# Altium footprint library JWpulsegen-V3.PcbLib: 13 footprints
Each footprint in its own frame and in the unit in brackets; x right, y up, seen from the top. Pads: shape width x height; smd on the part's side, far side on the other; paste and mask are expansions set on the pad; w line width, h text height; cw(c..) or ccw(c..) is an arc to the next point about the centre after c.
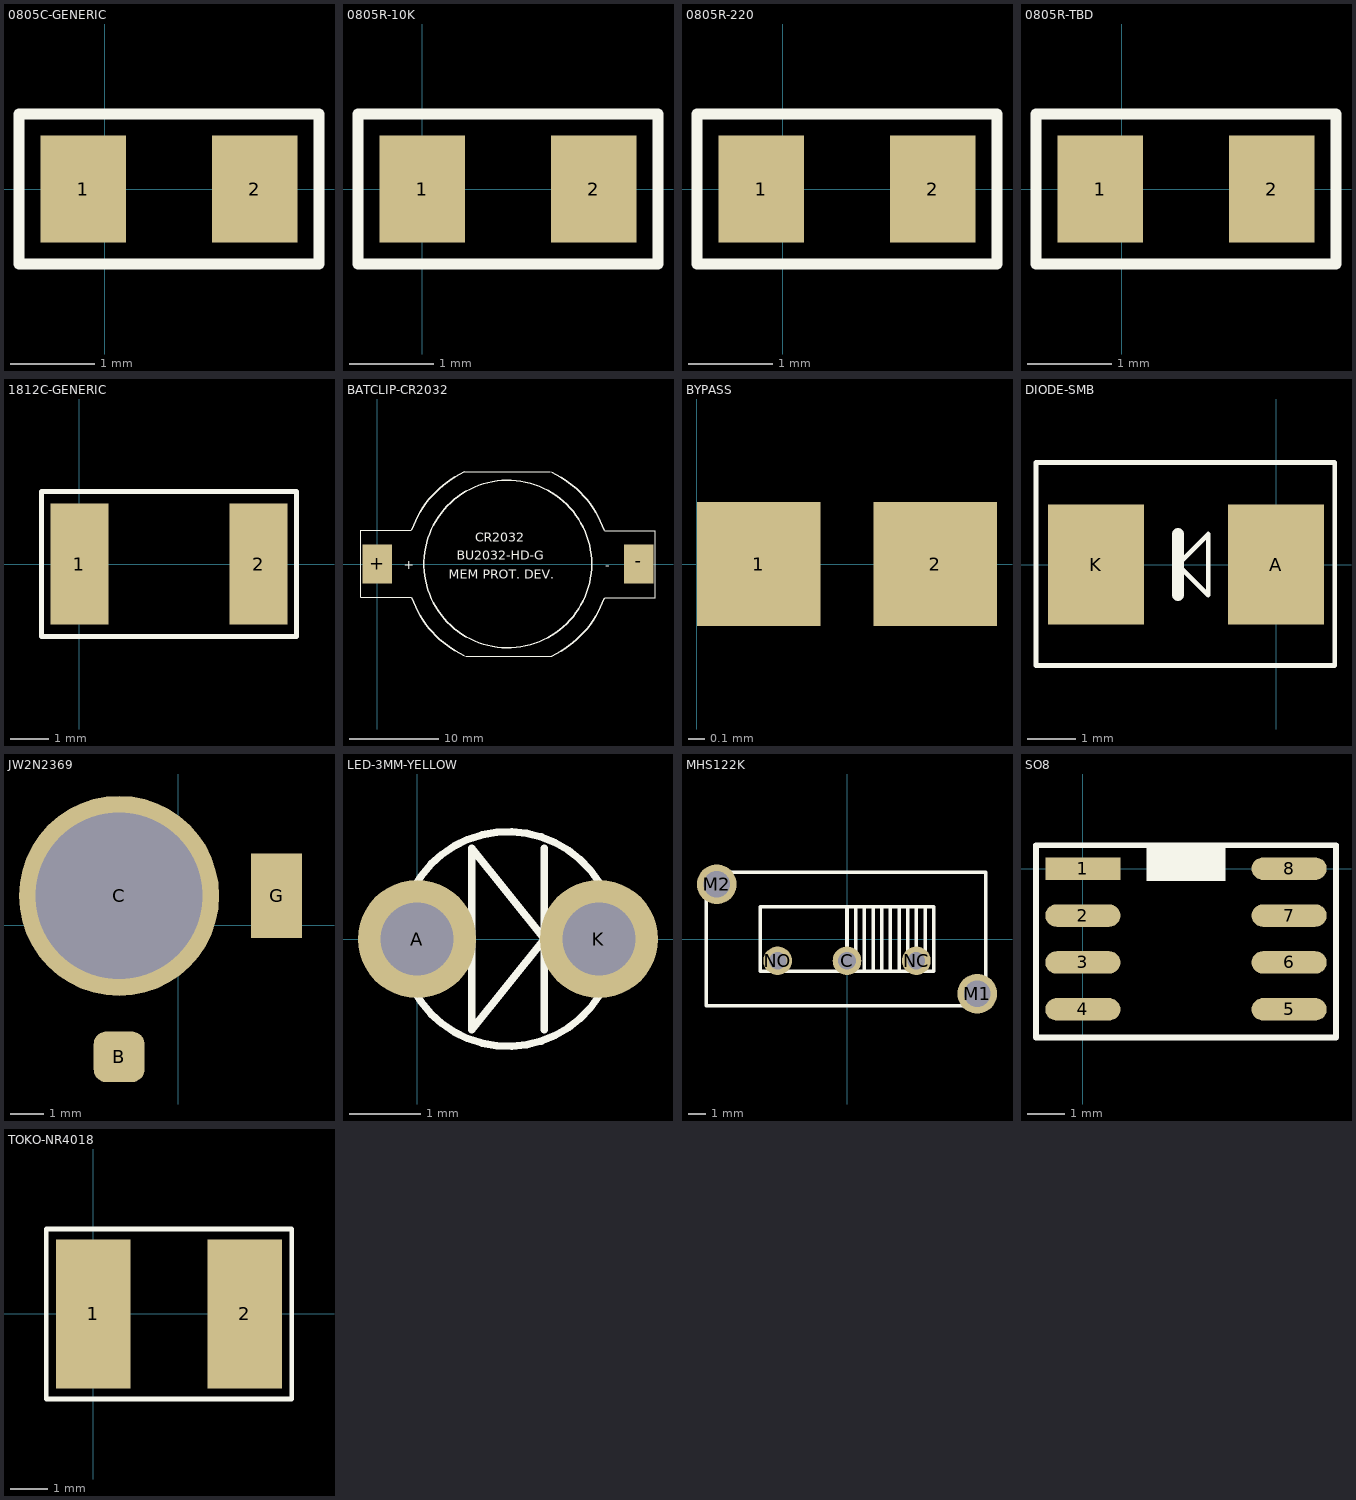
[diagram p0: the footprints below, top view; thin cyan lines are the x and y axes]

## 0805C-GENERIC [mil] "CAPACITOR 0805"
height 47.24
pads (2):
  rect 40x50 smd: 1(-10,0) 2(70,0)
Top Overlay:
  lines w5: -40,-35 100,-35 100,35 -40,35 -40,-35
3D body: height 23, standoff 22, extent 45,2.5 52.5,17.5
3D body: height 23, standoff 22, extent 35,2.5 42.5,17.5
3D body: height 23, standoff 22, extent 10.5,-15 18,0
3D body: height 23, standoff 22, extent -5,2.5 2.5,17.5
3D body: height 23, standoff 22, extent 5,2.5 12.5,17.5
3D body: height 23, standoff 22, extent 15,2.5 22.5,17.5
3D body: height 23, standoff 22, extent 25,2.5 32.5,17.5
3D body: height 23, standoff 22, extent 20.5,-15 28,0
3D body: height 23, standoff 22, extent 0.5,-15 8,0
3D body: height 23, standoff 22, extent 30.5,-15 38,0
3D body: height 23, standoff 22, extent 40.5,-15 48,0
3D body: height 25, standoff 0, extent -10,-24 69,24
3D body: height 26, standoff 0, extent -11,-25 5,25
3D body: height 26, standoff 0, extent 54,-25 70,25

## 0805R-10K [mil] "RESISTOR 0805"
height 47.24
pads (2):
  rect 40x50 smd: 1(0,0) 2(80,0)
Top Overlay:
  lines w5: -30,-35 110,-35 110,35 -30,35 -30,-35
3D body: height 27, standoff 26, extent 45.5,-7.5 53,7.5
3D body: height 27, standoff 26, extent 25.5,-7.5 33,7.5
3D body: height 27, standoff 26, extent 35.5,-7.5 43,7.5
3D body: height 26, standoff 0, extent 64,-25 80,25
3D body: height 26, standoff 25, extent 15,-22 64,22
3D body: height 26, standoff 0, extent -1,-25 15,25
3D body: height 25, standoff 0, extent 0,-24 79,24

## 0805R-220 [mil] "RESISTOR 0805"
height 47.24
pads (2):
  rect 40x50 smd: 1(-10,0) 2(70,0)
Top Overlay:
  lines w5: -40,-35 100,-35 100,35 -40,35 -40,-35
3D body: height 27, standoff 26, extent 35.5,-7.5 43,7.5
3D body: height 27, standoff 26, extent 25.5,-7.5 33,7.5
3D body: height 27, standoff 26, extent 15.5,-7.5 23,7.5
3D body: height 26, standoff 0, extent 54,-25 70,25
3D body: height 26, standoff 25, extent 5,-22 54,22
3D body: height 26, standoff 0, extent -11,-25 5,25
3D body: height 25, standoff 0, extent -10,-24 69,24

## 0805R-TBD [mil] "RESISTOR 0805 VALUE TO BE DETERMINED"
height 47.24
pads (2):
  rect 40x50 smd: 1(-10,0) 2(70,0)
Top Overlay:
  lines w5: -40,-35 100,-35 100,35 -40,35 -40,-35
3D body: height 27, standoff 26, extent 13.5,-5 21,8.5
3D body: height 26, standoff 0, extent 54,-25 70,25
3D body: height 26, standoff 25, extent 5,-22 54,22
3D body: height 26, standoff 0, extent -11,-25 5,25
3D body: height 25, standoff 0, extent -10,-24 69,24
3D body: height 27, standoff 26, extent 16,-9 18,-7
3D body: height 27, standoff 26, extent 26,-9 28,-7
3D body: height 27, standoff 26, extent 23.5,-5 31,8.5
3D body: height 27, standoff 26, extent 36,-9 38,-7
3D body: height 27, standoff 26, extent 33.5,-5 41,8.5

## 1812C-GENERIC [mil]
pads (2):
  rect 60x125 smd: 1(0,0) 2(185,0)
Top Overlay:
  lines w5: 23.62,-74.8 161.42,-74.8 ; 23.62,74.8 165.35,74.8 ; 25,-74.8 -39.37,-74.8 -39.37,74.8 25,74.8 ; 160,-74.8 224.41,-74.8 224.41,74.8 160,74.8
3D body "User Library-1812 SMD Capacitor.step": height 63.07, standoff 0, extent 1.97,-62.99 179.13,62.99

## BATCLIP-CR2032 [mil] "BATTERY CLIP 2032 SMD BU2032SM-HD-G"
pads (2):
  rect 130x170 smd mask+2: +(0,0) -(1148,0)
Top Overlay:
  circle w6: c573,0 r368.49
  lines w5: 150,-146 -73,-146 -73,14 -73,148 150,148 ; 382,406 760,406 ; 388,-406 766,-406 ; 998,-148 1221,-148 1221,-14 1221,146 998,146
  lines w6: 151.39,-147.51 ccw(c573,1) 381.64,-402.97 ; 151.39,149.51 cw(c573,1) 381.64,404.97 ; 766.36,-404.97 ccw(c575,-1) 996.61,-149.51 ; 766.36,402.97 cw(c575,-1) 996.61,147.51
  text "MEM PROT. DEV." at 314,-64 h40
  text "BU2032-HD-G" at 349,19 h40
  text "CR2032" at 431,98 h40
  text "+" at 116,-23 h40
  text "-" at 1001,-25 h40
3D body "User Library-BU2032SM-HD-G(CR2032 Battery Holder).step": height 208.66, standoff 0, extent -56,-393 1203.84,394.4
3D body "CircuitWorks-BATT CR2032.step": height 180, standoff 54.02, extent 173.3,-390.7 960.7,396.7

## BYPASS [mil] "SOLDERDOT BYPASS"
height 619.68
pads (2):
  rect 30x30 smd paste-300: 1(15,0)
  rect 30x30 smd paste-30: 2(57.86,0)
Top Solder:
  circle w30: c34,0 r15

## DIODE-SMB [mm]
pads (2):
  rect 2x2.5 smd: A(0,0) K(-3.75,0)
Top Overlay:
  lines w0.102: -5,-2.1 -5,2.125 1.225,2.125 1.225,-2.1 -5,-2.1 ; -2.046,0 -1.411,0.635 -1.411,0 -1.411,-0.635 -2.046,0
  lines w0.25: -2.046,-0.635 -2.046,0 -2.046,0.635
3D body: height 0.3, standoff 0, extent -4.575,-1.125 -3.6,1.125
3D body: height 1.1, standoff 0.7, extent -4.575,-1.125 -4.15,1.125
3D body: height 1.1, standoff 0, extent -4.575,-1.125 -4.275,1.125
3D body: height 1.1, standoff 0, extent 0.5,-1.125 0.8,1.125
3D body: height 1.1, standoff 0.7, extent 0.375,-1.125 0.8,1.125
3D body: height 0.3, standoff 0, extent -0.175,-1.125 0.8,1.125
3D body: height 2.23, standoff 2.2, extent -3.512,-1.8 -3.05,1.825
3D body: height 2.2, standoff 0.5, extent -4.175,-1.95 0.4,2
3D body: height 0.5, standoff 0, extent -2.375,-1.95 -1.275,2
3D body: height 2, standoff 0.4, extent -4.175,-1.95 0.4,2

## JW2N2369 [mil]
height 47.24
pads (3):
  rrect50% 60x60 smd mask+2: B(-70,-155)
  round 236.22 hole 196.85 mask+2: C(-70,35)
  rect 60x100 smd mask+2: G(116,35)
3D body: height 140, standoff 120, extent -79.89,-164.96 -60,-145.04
3D body: height 140, standoff 120, extent -79.89,-23.91 -60,-4
3D body: height 140, standoff 120, extent -29.89,25.04 -10,44.96
3D body "to18.stp": height 131.5, standoff -92.91, extent -217.77,-112.77 104.35,209.34
3D body: height 139.98, standoff 120.02, extent 164.99,25.08 214.99,45
3D body: height 139.98, standoff 120.02, extent 129.99,25.08 179.99,45
3D body: height 139.98, standoff 120.02, extent -20.01,25.08 29.99,45
3D body: height 139.98, standoff 120.02, extent 5,25.08 55,45
3D body: height 139.98, standoff 120.02, extent 55,25.08 105,45
3D body: height 139.98, standoff 120.02, extent 104.99,25.08 154.99,45
3D body: height 139.98, standoff 120.02, extent -79.92,-65 -60,-15
3D body: height 139.98, standoff 120.02, extent -79.88,-105 -59.96,-55
3D body: height 139.98, standoff 120.02, extent -79.92,-155 -60,-105
3D body: height 130, standoff 0, extent -79.92,-164.98 -60,-145.01
3D body "User Library-1206 SMD Resistor.step": height 124.99, standoff -0.99, extent 96.55,3.5 136,66.5
3D body: height 140, standoff 120, extent -129.89,25.05 -109.99,44.97

## LED-3MM-YELLOW [mil]
height 47.24
pads (2):
  round 65 hole 40: A(0,0) K(100,0)
Top Overlay:
  circle w4: c50,0 r59.06
  lines w4: 70,-50 70,0 ; 70,50 70,0 ; 70,0 30,50 30,-50 70,0
3D body: height 50, standoff -120, extent 87,-12.5 112,12.5
3D body: height 90, standoff 50, extent -13,-13 30,12
3D body: height 90, standoff 50, extent 69,-12.5 112,12.5
3D body: height 100, standoff 90, extent 35,-33 90,33
3D body: height 60, standoff -120, extent -12.5,-13 12.5,12
3D body: height 100, standoff 90, extent 21,-7 30,7
3D body: height 110, standoff 100, extent 45,-5 55,5
3D body: height 190, standoff 70, extent -9,-59 110.53,60.76
3D body: height 250, standoff 130, extent -9,-59 110.37,60.49
3D body: height 110, standoff 70, extent -15,-62.87 114.49,66.87

## MHS122K [mil]
pads (5):
  round 65 hole 40: C(0,-49.21) NC(157.48,-49.21) NO(-157.48,-49.21)
  round 90 hole 60: M1(295.28,-124.02) M2(-295.28,124.02)
Top Overlay:
  lines w8: -196.85,-25.59 -196.85,72.83 196.85,72.83 196.85,-25.59 ; -196.85,25.59 -196.85,-72.83 196.85,-72.83 196.85,25.59 ; 0,-72.83 0,25.59 ; 0,-25.59 0,72.83 ; 19.68,-25.59 19.68,72.83 39.37,72.83 39.37,-25.59 ; 19.68,25.59 19.68,-72.83 39.37,-72.83 39.37,25.59 ; 59.06,-25.59 59.06,72.83 78.74,72.83 78.74,-25.59 ; 59.06,25.59 59.06,-72.83 78.74,-72.83 78.74,25.59 ; 98.43,-25.59 98.43,72.83 118.11,72.83 118.11,-25.59 ; 98.43,25.59 98.43,-72.83 118.11,-72.83 118.11,25.59 ; 137.8,-25.59 137.8,72.83 157.48,72.83 157.48,-25.59 ; 137.8,25.59 137.8,-72.83 157.48,-72.83 157.48,25.59 ; 177.17,-72.83 177.17,25.59 ; 177.17,-25.59 177.17,72.83 ; 322.83,-151.57 -318.9,-151.57 ; -318.9,-151.57 -318.9,151.57 ; -318.9,-151.57 314.96,-151.57 ; -318.9,-151.57 -318.9,151.57 ; -318.9,151.57 314.96,151.57 ; 314.96,-151.57 314.96,151.57 ; 314.96,-151.57 314.96,151.57
3D body: height 50, standoff -10, extent -312.99,116.14 -277.56,131.89
3D body: height 50, standoff -10, extent 277.56,-131.89 313,-116.14
3D body: height 50, standoff -10, extent 143.7,-57.08 171.26,-41.34
3D body: height 50, standoff -10, extent -13.78,-57.08 13.78,-41.34
3D body: height 50, standoff -10, extent -171.26,-57.08 -143.7,-41.34
3D body: height 30, standoff 15, extent -295.28,-114.17 295.28,118.11
3D body: height 270, standoff 5, extent -322.83,118.11 314.96,133.86
3D body: height 270, standoff 250, extent -318.9,-129.92 314.96,133.86
3D body: height 270, standoff 5, extent -314.96,-129.92 322.84,-114.17
3D body: height 250, standoff 60, extent -59.06,-114.17 255.91,118.11
3D body: height 280, standoff 250, extent -157.48,-82.68 157.48,78.74
3D body: height 430, standoff 280, extent 0.66,-82.51 165.36,82.52

## SO8 [mil]
height 47.24
pads (8):
  rect 80x24 smd: 1(0,0)
  oval 80x24 smd: 2(0,-50) 3(0,-100) 4(0,-150) 5(220,-150) 6(220,-100) 7(220,-50) 8(220,0)
Top Overlay:
  rectangle: 67.99,-13 151.99,25
  lines w6: -50,-180 -50,25 270,25 270,-180 -50,-180
3D body: height 61, standoff 60, extent 38,-9 57.92,10.96
3D body: height 61, standoff 60, extent 70,-12 154,22
3D body: height 20, standoff 0, extent 215,-7 242,8
3D body: height 35, standoff 15, extent 196,-7 228.5,8
3D body: height 20, standoff 0, extent 215,-57 242,-42
3D body: height 35, standoff 15, extent 196,-57 228.5,-42
3D body: height 20, standoff 0, extent 215,-107 242,-92
3D body: height 35, standoff 15, extent 196,-107 228.5,-92
3D body: height 20, standoff 0, extent 215,-157 242,-142
3D body: height 35, standoff 15, extent 196,-157 228.5,-142
3D body: height 20, standoff 0, extent -18,-158 9,-143
3D body: height 35, standoff 15, extent -4.5,-158 28,-143
3D body: height 20, standoff 0, extent -18,-108 9,-93
3D body: height 35, standoff 15, extent -4.5,-108 28,-93
3D body: height 20, standoff 0, extent -18,-58 9,-43
3D body: height 35, standoff 15, extent -4.5,-58 28,-43
3D body: height 35, standoff 15, extent -4.5,-8 28,7
3D body: height 20, standoff 0, extent -18,-8 9,7
3D body: height 60, standoff 10, extent 27,-170 197,20

## TOKO-NR4018 [mm] "TOKO INDUCTOR NR4018 SERIES"
height 1.2
pads (2):
  rect 2x4 smd mask+0.051: 1(0,0) 2(4.064,0)
Top Overlay:
  lines w0.127: -1.27,-2.286 -1.27,2.286 5.334,2.286 5.334,-2.286 -1.27,-2.286
3D body: height 1.8, standoff 0, extent 0.254,-1.778 3.81,1.778
3D body: height 0.5, standoff 0, extent 0,-2.032 4.064,2.032
3D body: height 1.8, standoff 1.3, extent 0,-2.032 4.064,2.032